# Altium footprint library TO220-5-STAGGERED_JACKETED_1.PcbLib: 1 footprints
Each footprint in its own frame and in the unit in brackets; x right, y up, seen from the top. Pads: shape width x height; smd on the part's side, far side on the other; paste and mask are expansions set on the pad; w line width, h text height; cw(c..) or ccw(c..) is an arc to the next point about the centre after c.
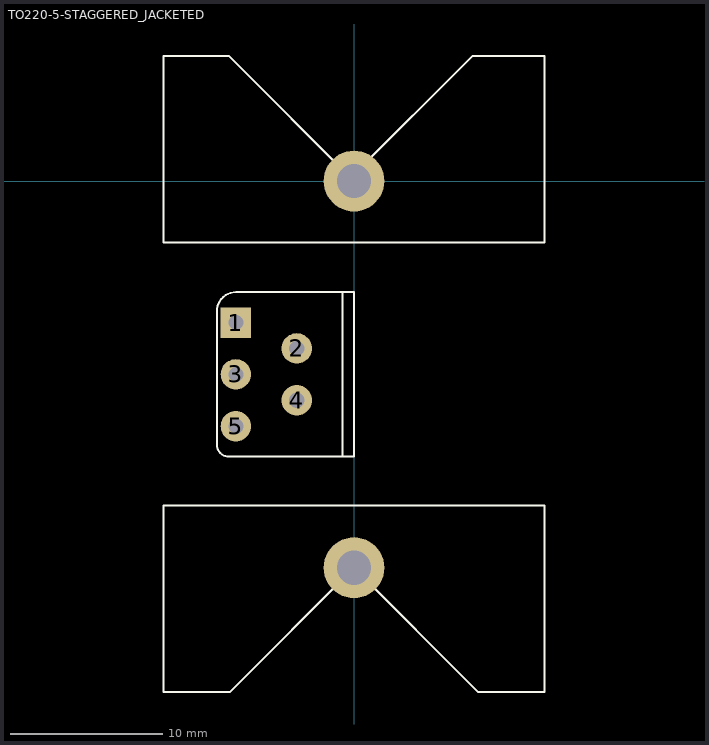
[diagram p0: the footprint, top view; thin cyan lines are the x and y axes]

## TO220-5-STAGGERED_JACKETED [mm]
pads (7):
  rect 2x2 hole 1: 1(-7.75,-9.285)
  round 2 hole 1: 2(-3.75,-10.985) 3(-7.75,-12.685) 4(-3.75,-14.385) 5(-7.75,-16.085)
  round 4 hole 2.25: ""(0,-25.37) ""(0,0)
Top Overlay:
  lines w0.127: -0.75,-18.085 -0.75,-7.285 ; 0,0 -8.215,8.215 -12.5,8.215 -12.5,-4.035 12.5,-4.035 12.5,8.215 7.785,8.215 0,0.43 ; -12.5,-33.535 -8.165,-33.535 0,-25.37 8.165,-33.535 12.5,-33.535 12.5,-21.285 -12.5,-21.285 -12.5,-33.535 ; -9,-17.285 ccw(c-8.2,-17.285) -8.2,-18.085 0,-18.085 0,-7.285 -7.73,-7.285 ccw(c-7.73,-8.555) -9,-8.555 -9,-17.285